# Altium footprint library MR30PW.PcbLib: 1 footprints
Each footprint in its own frame and in the unit in brackets; x right, y up, seen from the top. Pads: shape width x height; smd on the part's side, far side on the other; paste and mask are expansions set on the pad; w line width, h text height; cw(c..) or ccw(c..) is an arc to the next point about the centre after c.
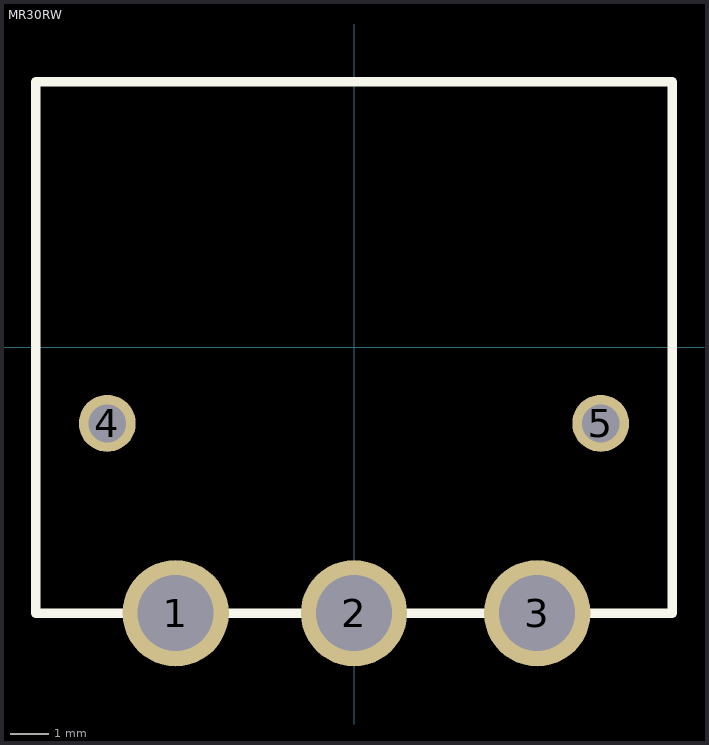
[diagram p0: the footprint, top view; thin cyan lines are the x and y axes]

## MR30RW [mm]
pads (5):
  round 2.8 hole 2: 1(-4.699,-7) 2(0,-7) 3(4.826,-7)
  round 1.5 hole 1: 4(-6.5,-2) 5(6.5,-2)
Top Overlay:
  lines w0.254: -8.382,-7 8.382,-7 8.382,7 -8.382,7 -8.382,-7